# EAGLE library part BQ24640 (library OSSIdonghee)
BQ24640 High-Efficiency Synchronous Switch-Mode Super Capacitor Charger 5V–28V VCC Input Voltage Range Over 90% Efficiency for up to 10A Charge Current
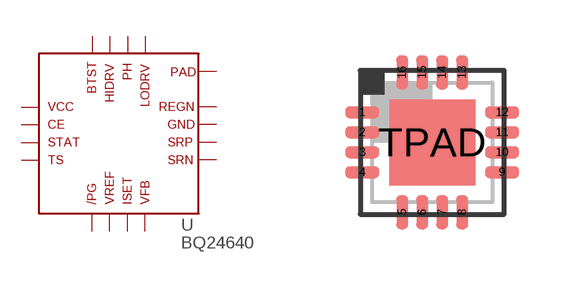
[diagram p19: symbol with the pads of QFN-16; footprint QFN-16]

Designator prefix U

## BQ24640  [QFN-16]
1  P$1
2  P$2
3  P$3
4  P$4
5  P$5
6  P$6
7  P$7
8  P$8
9  P$9
10  P$10
11  P$11
12  P$12
13  P$13
14  P$14
15  P$15
16  P$16
TPAD  P$17  pwr

## Footprint QFN-16 (pad centres in mm)
smd 0.85 x 0.3: 1 -1.75,0.75; 2 -1.75,0.25; 3 -1.75,-0.25; 4 -1.75,-0.75; 9 1.75,-0.75; 10 1.75,-0.25; 11 1.75,0.25; 12 1.75,0.75
smd 0.3 x 0.85: 5 -0.75,-1.75; 6 -0.25,-1.75; 7 0.25,-1.75; 8 0.75,-1.75; 13 0.75,1.75; 14 0.25,1.75; 15 -0.25,1.75; 16 -0.75,1.75
smd 2.15 x 2.15: TPAD 0,0